# Altium footprint library tps63070.PcbLib: 1 footprints
Each footprint in its own frame and in the unit in brackets; x right, y up, seen from the top. Pads: shape width x height; smd on the part's side, far side on the other; paste and mask are expansions set on the pad; w line width, h text height; cw(c..) or ccw(c..) is an arc to the next point about the centre after c.
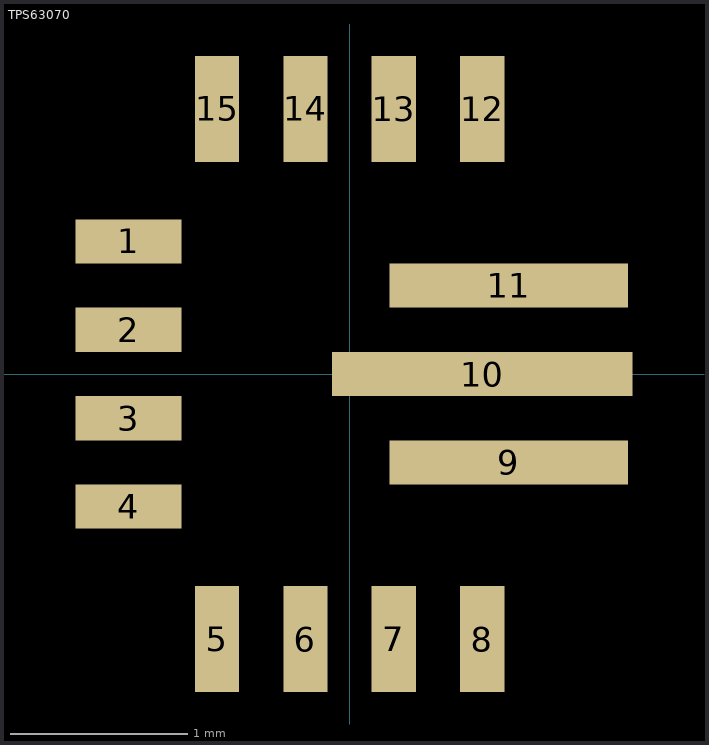
[diagram p0: the footprint, top view; thin cyan lines are the x and y axes]

## TPS63070 [mm]
pads (15):
  rect 0.6x0.25 smd: 1(-1.25,0.75) 2(-1.25,0.25) 3(-1.25,-0.25) 4(-1.25,-0.75)
  rect 0.25x0.6 smd: 5(-0.75,-1.5) 6(-0.25,-1.5) 7(0.25,-1.5) 8(0.75,-1.5) 12(0.75,1.5) 13(0.25,1.5) 14(-0.25,1.5) 15(-0.75,1.5)
  rect 1.35x0.25 smd: 9(0.9,-0.5) 11(0.9,0.5)
  rect 1.7x0.25 smd: 10(0.75,0)
3D body: height 1, standoff 0, extent -1.25,-1.5 1.25,1.5